# Altium footprint library Components - 23.07.26 - 00.13.PcbLib: 4 footprints
Each footprint in its own frame and in the unit in brackets; x right, y up, seen from the top. Pads: shape width x height; smd on the part's side, far side on the other; paste and mask are expansions set on the pad; w line width, h text height; cw(c..) or ccw(c..) is an arc to the next point about the centre after c.
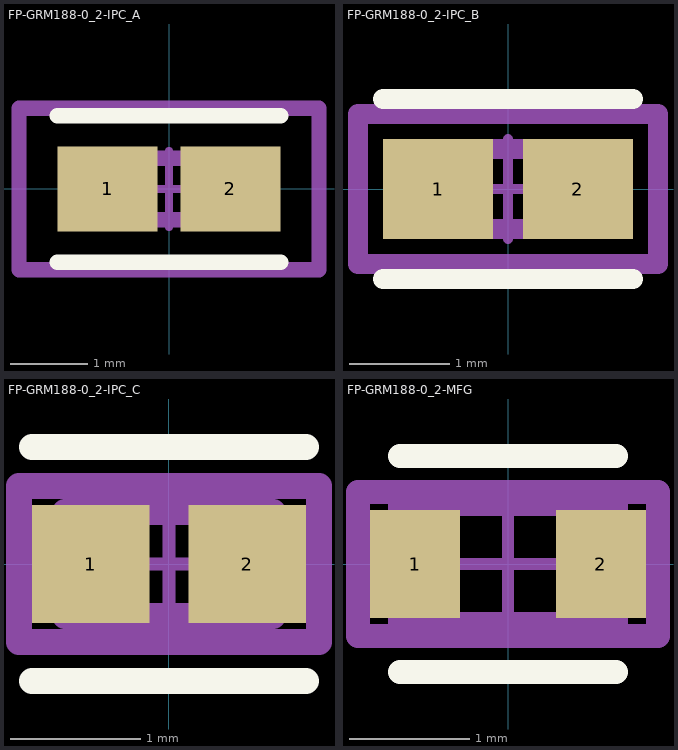
[diagram p0: the footprints below, top view; thin cyan lines are the x and y axes]

## FP-GRM188-0_2-IPC_A [mm]
pads (2):
  rect 1.305x1.106 smd paste+0 mask+0: 1(-0.801,0) 2(0.801,0)
Top Overlay:
  lines w0.2: -1.453,-0.953 1.453,-0.953 ; -1.453,0.953 1.453,0.953
Top Assembly:
  lines w0.2: -1.953,-1.053 -1.953,1.053 1.953,1.053 1.953,-1.053 -1.953,-1.053
Top 3D Body:
  lines w0.2: -0.8,-0.4 -0.8,0.4 0.8,0.4 0.8,-0.4 -0.8,-0.4
Top Courtyard:
  lines w0.2: -1.953,-1.053 -1.953,1.053 1.953,1.053 1.953,-1.053 -1.953,-1.053
Top Component Center:
  lines w0.1: -0.5,0 0.5,0 ; 0,-0.5 0,0.5
3D body "Cap_Murata_GRM188C71C225KE11D_eec.STEP": height 0.25, standoff 0, extent -1.953,-1.053 1.953,1.053

## FP-GRM188-0_2-IPC_B [mm]
pads (2):
  rect 1.105x1.006 smd paste+0 mask+0: 1(-0.701,0) 2(0.701,0)
Top Overlay:
  lines w0.2: -1.253,-0.903 1.253,-0.903 ; -1.253,0.903 1.253,0.903
Top Assembly:
  lines w0.2: -1.503,-0.753 -1.503,0.753 1.503,0.753 1.503,-0.753 -1.503,-0.753
Top 3D Body:
  lines w0.2: -0.8,-0.4 -0.8,0.4 0.8,0.4 0.8,-0.4 -0.8,-0.4
Top Courtyard:
  lines w0.2: -1.503,-0.753 -1.503,0.753 1.503,0.753 1.503,-0.753 -1.503,-0.753
Top Component Center:
  lines w0.1: -0.5,0 0.5,0 ; 0,-0.5 0,0.5
3D body "Cap_Murata_GRM188C71C225KE11D_eec.STEP": height 0.25, standoff 0, extent -1.503,-0.753 1.503,0.753

## FP-GRM188-0_2-IPC_C [mm]
pads (2):
  rect 0.905x0.906 smd paste+0 mask+0: 1(-0.601,0) 2(0.601,0)
Top Overlay:
  lines w0.2: -1.053,-0.9 1.053,-0.9 ; -1.053,0.9 1.053,0.9
Top Assembly:
  lines w0.2: -1.153,-0.6 -1.153,0.6 1.153,0.6 1.153,-0.6 -1.153,-0.6
Top 3D Body:
  lines w0.2: -0.8,-0.4 -0.8,0.4 0.8,0.4 0.8,-0.4 -0.8,-0.4
Top Courtyard:
  lines w0.2: -1.153,-0.6 -1.153,0.6 1.153,0.6 1.153,-0.6 -1.153,-0.6
Top Component Center:
  lines w0.1: -0.5,0 0.5,0 ; 0,-0.5 0,0.5
3D body "Cap_Murata_GRM188C71C225KE11D_eec.STEP": height 0.25, standoff 0, extent -1.153,-0.6 1.153,0.6

## FP-GRM188-0_2-MFG [mm]
pads (2):
  rect 0.75x0.9 smd paste+0 mask+0: 1(-0.775,0) 2(0.775,0)
Top Overlay:
  lines w0.2: -0.9,-0.9 0.9,-0.9 ; -0.9,0.9 0.9,0.9
Top Assembly:
  lines w0.2: -1.25,-0.6 -1.25,0.6 1.25,0.6 1.25,-0.6 -1.25,-0.6
Top 3D Body:
  lines w0.2: -0.9,-0.5 -0.9,0.5 0.9,0.5 0.9,-0.5 -0.9,-0.5
Top Courtyard:
  lines w0.2: -1.25,-0.6 -1.25,0.6 1.25,0.6 1.25,-0.6 -1.25,-0.6
Top Component Center:
  lines w0.1: -0.5,0 0.5,0 ; 0,-0.5 0,0.5
3D body "Cap_Murata_GRM188C71C225KE11D_eec.STEP": height 0.25, standoff 0, extent -1.25,-0.6 1.25,0.6